# Altium schematic symbol library Schlib2.SchLib: 1 symbol
Pins are listed as number, name and electrical type; pins without a type are passive.

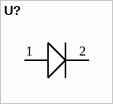
[diagram p0: symbol U?]

## U?
designator Diode, comment Diode  (value not drawn)
footprint Model Name (Footprint not found)
footprint PCBComponent_1
pins: 1, 2 1